# Altium footprint library A110LR09A.PcbLib: 1 footprints
Each footprint in its own frame and in the unit in brackets; x right, y up, seen from the top. Pads: shape width x height; smd on the part's side, far side on the other; paste and mask are expansions set on the pad; w line width, h text height; cw(c..) or ccw(c..) is an arc to the next point about the centre after c.
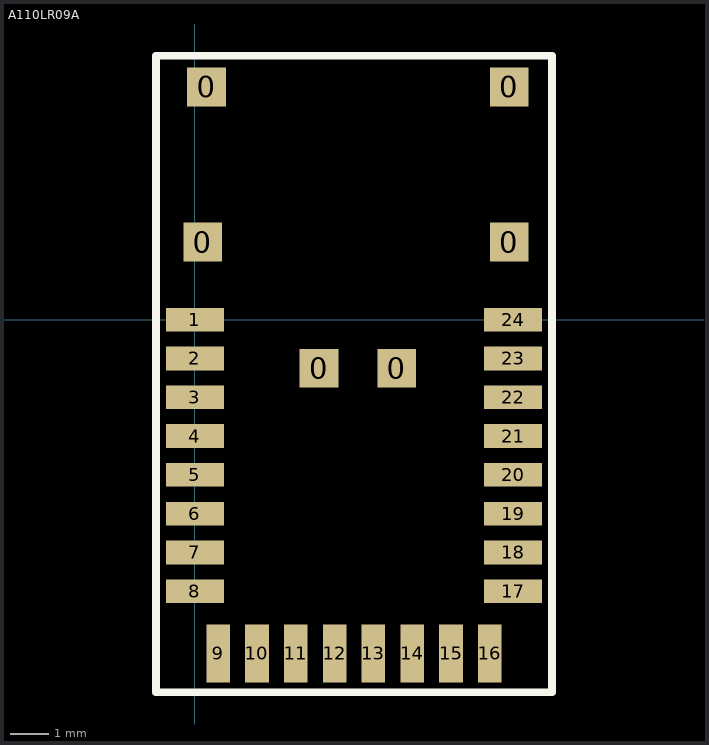
[diagram p0: the footprint, top view; thin cyan lines are the x and y axes]

## A110LR09A [mm]
pads (30):
  rect 1x1 smd: 0(0.2,2) 0(0.3,6) 0(3.2,-1.25) 0(5.2,-1.25) 0(8.1,2) 0(8.1,6)
  rect 1.5x0.61 smd: 1(0,0) 2(0,-1) 3(0,-2) 4(0,-3) 5(0,-4) 6(0,-5) 7(0,-6) 8(0,-7) 17(8.2,-7) 18(8.2,-6) 19(8.2,-5) 20(8.2,-4) 21(8.2,-3) 22(8.2,-2) 23(8.2,-1) 24(8.2,0)
  rect 0.61x1.5 smd: 9(0.6,-8.6) 10(1.6,-8.6) 11(2.6,-8.6) 12(3.6,-8.6) 13(4.6,-8.6) 14(5.6,-8.6) 15(6.6,-8.6) 16(7.6,-8.6)
Top Overlay:
  lines w0.2: -1,-9.6 9.2,-9.6 9.2,6.8 -1,6.8 -1,-9.6